# Altium footprint library 0603smd.PcbLib: 1 footprints
Each footprint in its own frame and in the unit in brackets; x right, y up, seen from the top. Pads: shape width x height; smd on the part's side, far side on the other; paste and mask are expansions set on the pad; w line width, h text height; cw(c..) or ccw(c..) is an arc to the next point about the centre after c.
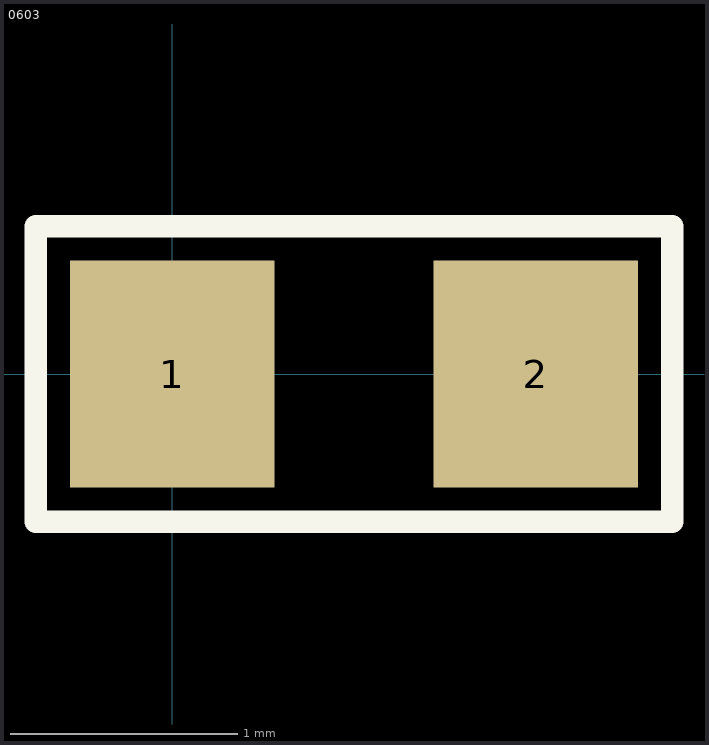
[diagram p0: the footprint, top view; thin cyan lines are the x and y axes]

## 0603 [mm] "SMD res/caps"
pads (2):
  rect 0.9x1 smd: 1(0,0) 2(1.6,0)
Top Overlay:
  lines w0.1: -0.6,-0.65 -0.6,0.65 1.3,0.65 2.2,0.65 2.2,-0.65 -0.6,-0.65